# Altium schematic symbol library Signal Generator.SCHLIB: 43 symbols
Pins are listed as number, name and electrical type; pins without a type are passive.

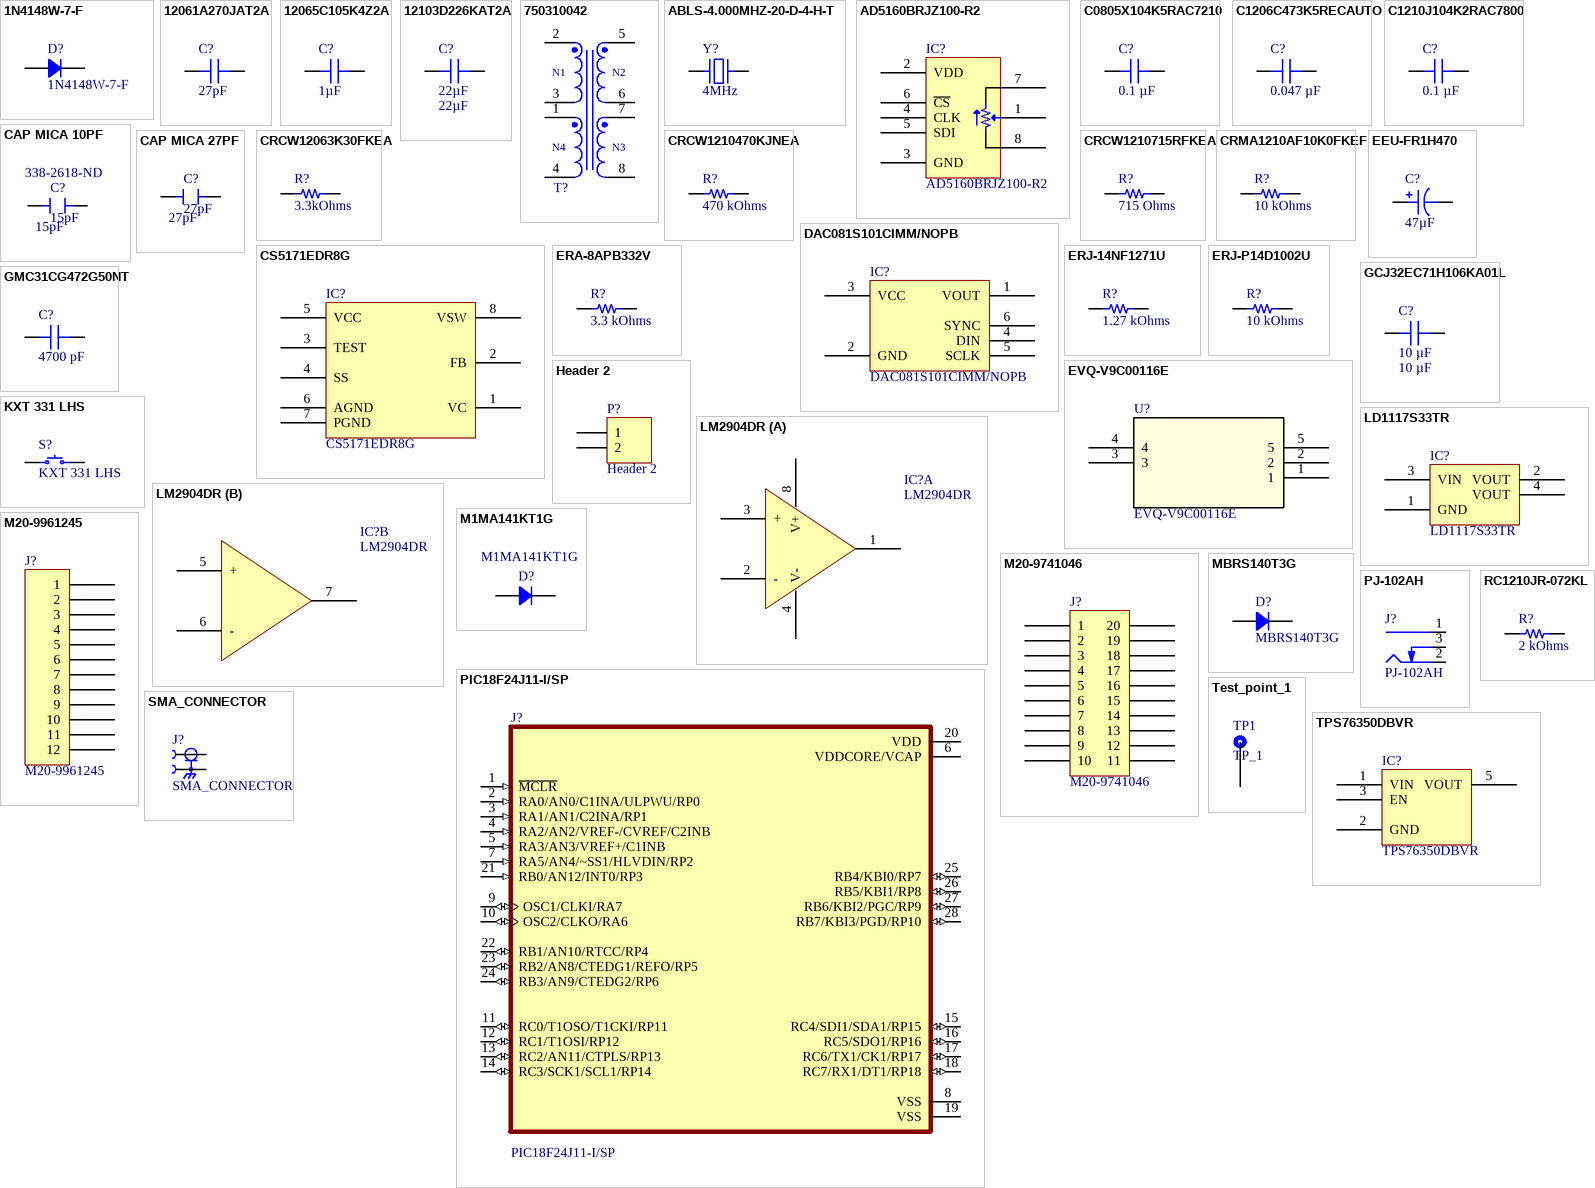
[diagram p0: symbols 1N4148W-7-F to TPS76350DBVR]

## 1N4148W-7-F
designator D?
DIODE GEN PURP 100V 300MA SOD123; Manufacturer: Diodes Incorporated; Capacitance @ Vr, F: 2pF @ 0V, 1MHz; Current - Reverse Leakage @ Vr: 1 µA @ 100 V; Diode Type: Standard; Reverse Recovery Time (trr): 4 ns; Speed: Fast Recovery =< 500ns, > 200mA (Io); Voltage - Forward (Vf) (Max) @ If: 1.25 V @ 150 mA; Part Number: 1N4148W-7-F; ComponentLink1Description: Datasheet; ComponentLink1URL: https://www.diodes.com/assets/Datasheets/ds30086.pdf; ComponentLink2Description: DigiKey Link; ComponentLink2URL: https://www.digikey.com/en/products/detail/diodes-incorporated/1N4148W-7-F/814371; Current - Average Rectified (Io): 300mA; LastUpdated: 8/02/2024 9:27:29 PM; Lifecycle Status: Active; Minimum Order: 1; Mounting Type: Surface Mount; Operating Temperature - Junction: -55°C ~ 150°C; Package / Case: SOD-123; Packaging: TapeAndReel; PartId: 1002; Part Status: Active; Price: 0.02; Series: -; Supplier 1: DigiKey; Supplier Part Number 1: 1N4148W-FDICT-ND; Supplier Device Package: SOD-123; Voltage - DC Reverse (Vr) (Max): 100 V
footprint SOD-123
pins: 1, 2

## 12061A270JAT2A
designator C?, comment 27pF
CAP CER 27PF 100V C0G/NP0 1206; Part Number: 12061A270JAT2A; manufacturer: AVX Corporation; Temperature Coefficient: C0G, NP0; Tolerance: ±5%; Value: 27pF; Applications: General Purpose; Capacitance: 27pF; componentlink1description: Datasheet; componentlink1url: http://datasheets.avx.com/C0GNP0-Dielectric.pdf; componentlink2description: DigiKey Link; componentlink2url: http://digikey.com/product-detail/en/avx-corporation/12061A270JAT2A/478-5038-1-ND/1888249; Device Package: 1206 (3216 Metric); lastupdated: 2/09/2020 1:05:05 AM; Lifecycle Status: Active; Minimum Order: 1; Mounting Type: Surface Mount, MLCC; Operating Temperature: -55°C ~ 125°C; Package / Case: 1206 (3216 Metric); packaging: TapeAndReel; partid: 19318; Part Status: Active; price: 0.06; series: -; Size / Dimension: 0.126" L x 0.063" W (3.20mm x 1.60mm); Supplier 1: DigiKey; Supplier Part Number 1: 478-5038-1-ND; Thickness (Max): 0.037" (0.94mm); Voltage - Rated: 100V
footprint CAP 1206_3216 - 1.0MM
pins: 1, 2

## 12065C105K4Z2A
designator C?, comment 1µF
CAP CER 1UF 50V X7R 1206; Part Number: 12065C105K4Z2A; manufacturer: AVX Corporation; Tolerance: ±10%; Value: 1µF; Applications: Automotive, Boardflex Sensitive; Capacitance: 1µF; componentlink1description: Datasheet; componentlink1url: http://datasheets.avx.com/AutoMLCC.pdf; componentlink2description: DigiKey Link; componentlink2url: http://digikey.com/product-detail/en/avx-corporation/12065C105K4Z2A/478-10886-1-ND/7536455; Device Package: 1206 (3216 Metric); Features: Soft Termination; lastupdated: 2/09/2020 1:05:06 AM; Lifecycle Status: Active; Minimum Order: 1; Mounting Type: Surface Mount, MLCC; Operating Temperature: -55°C ~ 125°C; Package / Case: 1206 (3216 Metric); packaging: TapeAndReel; partid: 18944; Part Status: Active; price: 0.12; Ratings: AEC-Q200; series: FLEXITERM®; Size / Dimension: 0.126" L x 0.063" W (3.20mm x 1.60mm); Supplier 1: DigiKey; Supplier Part Number 1: 478-10886-1-ND; Temperature Coefficient: X7R; Thickness (Max): 0.037" (0.94mm); Voltage - Rated: 50V
footprint CAP 1206_3216 - 1.0MM
pins: 1, 2

## 12103D226KAT2A
designator C?, comment 22µF
CAP CER 22UF 25V X5R 1210; Part Number: 12103D226KAT2A; Value: 22µF
footprint CAP 1210_3225 - 2.8MM
pins: 1, 2

## 750310042
designator T?, comment Ui = 30-57V, Uo1 = 12V/5A, Uo2 = -12V/1.6A  (value not drawn)
WE-PoE++ Power over Ethernet Plus Plus Transformer, THT, EFD20, Ui = 30-57V, Uo1 = 12V/5A, Uo2 = -12V/1.6A; Manufacturer Part Number: 750310042; Manufacturer: Wurth Elektronik; Auxiliary Voltage: 12V; Inductance: 154uH; Input Voltage: 30-57VDC; Insulation Test Voltage: 1500V; Leakage Inductance: 2uH; Output Current 1: 5A; Output Current 2: 1.6A; Output Voltage 2: -12V; Switching Frequency: 250-400kHz; Turns Ratio: 2:1:1:1; Category: Transformers For DC-DC Converter; Match Code: WE-PoE++; ComponentLink1Description: Website Link; ComponentLink1URL: https://www.we-online.com/redexpert/article/750310042?ad; ComponentLink2Description: Datasheet Link; ComponentLink2URL: https://www.we-online.com/redexpert/spec/750310042?ad; Mount: Through Hole; Operating Temperature Max: 125°C; Operating Temperature Min: -40°C; Packaging: Tape and Reel; Case/Size Code: EFD20; Length: 21.08mm; Width: 21.08mm; Height: 10.8mm; Output Voltage 1: 12V
footprint WE-PoE++_EFD20_THT_L21.08W21.08H10.8
pins: 1, 2, 3, 4, 5, 6, 7, 8
text: N1; N2; N4; N3

## ABLS-4.000MHZ-20-D-4-H-T
designator Y?, comment 4MHz
CRYSTAL 4.0000MHZ 20PF SMD; Part Number: ABLS-4.000MHZ-20-D-4-H-T; Manufacturer: Abracon LLC; ESR (Equivalent Series Resistance): 180 Ohms; Frequency Stability: ±35ppm; Frequency Tolerance: ±30ppm; Operating Mode: Fundamental; ComponentLink1Description: Datasheet; ComponentLink1URL: https://abracon.com/Resonators/abls.pdf; ComponentLink2Description: DigiKey Link; ComponentLink2URL: http://digikey.com/product-detail/en/abracon-llc/ABLS-4.000MHZ-20-D-4-H-T/535-14920-1-ND/9997997; Frequency: 4MHz; Height - Seated (Max): 0.165" (4.20mm); LastUpdated: 8/02/2024 9:34:21 PM; Lifecycle Status: Active; Load Capacitance: 20pF; Minimum Order: 1; Mounting Type: Surface Mount; Operating Temperature: -40°C ~ 85°C; Package / Case: HC-49/US; Packaging: TapeAndReel; PartId: 85; Part Status: Active; Price: 0.29; Series: ABLS; Size / Dimension: 0.449" L x 0.185" W (11.40mm x 4.70mm); Supplier 1: DigiKey; Supplier Part Number 1: 535-14920-1-ND; Type: MHz Crystal; Value: 4MHz
footprint ABRACON ABLS
pins: 1, 2

## AD5160BRJZ100-R2
designator IC?
IC DGTL POT 100KOHM 256TAP SOT23; Manufacturer: Analog Devices Inc.; Configuration: Potentiometer; Interface: SPI; Memory Type: Volatile; Number of Circuits: 1; Number of Taps: 256; Resistance (Ohms): 100k; Resistance - Wiper (Ohms) (Typ): 50; Temperature Coefficient (Typ): 45ppm/°C; Tolerance: ±15%; Voltage - Supply: 2.7V ~ 5.5V; Part Number: AD5160BRJZ100-R2; ComponentLink1Description: Datasheet; ComponentLink1URL: https://www.analog.com/media/en/technical-documentation/data-sheets/AD5160.pdf; ComponentLink2Description: DigiKey Link; ComponentLink2URL: http://digikey.com/product-detail/en/analog-devices-inc/AD5160BRJZ100-R2/AD5160BRJZ100-R2CT-ND/751230; LastUpdated: 3/06/2024 8:26:31 PM; Lifecycle Status: Active; Minimum Order: 1; Operating Temperature: -40°C ~ 125°C; Package / Case: SOT-23-8; Packaging: TapeAndReel; PartId: 39; Part Status: Active; Price: 1.68; Series: -; Supplier 1: DigiKey; Supplier Part Number 1: AD5160BRJZ100-R2CT-ND; Supplier Device Package: SOT-23-8; Taper: Linear
footprint ANALOG SOT-23-8 RJ-8
pins: 1 W, 2 VDD, 3 GND, 4 CLK, 5 SDI, 6 ~{CS}, 7 A, 8 B

## C0805X104K5RAC7210
designator C?, comment 0.1 µF
.100UF 50.0V; Part Number: C0805X104K5RAC7210; manufacturer: KEMET; Temperature Coefficient: X7R; Tolerance: ±10%; Voltage - Rated: 50V; Value: 0.1 µF; Applications: Boardflex Sensitive; Capacitance: 0.1 µF; componentlink1description: Datasheet; componentlink1url: https://connect.kemet.com:7667/gateway/IntelliData-ComponentDocumentation/1.0/download/datasheet/C0805X104K5RAC7210; componentlink2description: DigiKey Link; componentlink2url: https://www.digikey.com/en/products/detail/kemet/C0805X104K5RAC7210/12082600; Device Package: 0805 (2012 Metric); Features: Soft Termination; lastupdated: 9/02/2024 8:14:45 PM; Lifecycle Status: Active; Minimum Order: 1; Mounting Type: Surface Mount, MLCC; Operating Temperature: -55°C ~ 125°C; Package / Case: 0805 (2012 Metric); packaging: TapeAndReel; partid: 48810; Part Status: Active; price: 0.05; series: SMD Comm X7R Flex; Size / Dimension: 0.079" L x 0.049" W (2.00mm x 1.25mm); Supplier 1: DigiKey; Supplier Part Number 1: 399-C0805X104K5RAC7210CT-ND; Thickness (Max): 0.039" (0.98mm)
footprint CAP 0805_2012
pins: 1, 2

## C1206C473K5RECAUTO
designator C?, comment 0.047 µF
CAP CER 1206 47NF 50V X7R 10%; Part Number: C1206C473K5RECAUTO; manufacturer: KEMET; Applications: Automotive, ESD Protection; Capacitance: 0.047 µF; componentlink1description: Datasheet; componentlink1url: https://api.kemet.com/component-edge/download/datasheet/C1206C473K5RECAUTO.pdf; componentlink2description: DigiKey Link; componentlink2url: https://www.digikey.com/en/products/detail/kemet/C1206C473K5RECAUTO/8640487; Device Package: 1206 (3216 Metric); lastupdated: 9/02/2024 8:18:49 PM; Lifecycle Status: Active; Minimum Order: 1; Mounting Type: Surface Mount, MLCC; Operating Temperature: -55°C ~ 125°C; Package / Case: 1206 (3216 Metric); packaging: TapeAndReel; partid: 19026; Part Status: Active; price: 0.03; Ratings: AEC-Q200; series: ESD SMD Auto X7R; Size / Dimension: 0.126" L x 0.063" W (3.20mm x 1.60mm); Supplier 1: DigiKey; Supplier Part Number 1: 399-17893-1-ND; Temperature Coefficient: X7R; Thickness (Max): 0.043" (1.10mm); Tolerance: ±10%; Voltage - Rated: 50V; Value: 0.047 µF
footprint CAP 1206_3216 - 0.8MM
footprint Model Name (Model Description)
pins: 1, 2

## C1210J104K2RAC7800
designator C?, comment 0.1 µF
.100UF  200V; Part Number: C1210J104K2RAC7800; manufacturer: KEMET; Temperature Coefficient: X7R; Tolerance: ±10%; Applications: Boardflex Sensitive; Capacitance: 0.1 µF; componentlink1description: Datasheet; componentlink1url: https://connect.kemet.com:7667/gateway/IntelliData-ComponentDocumentation/1.0/download/datasheet/C1210J104K2RAC7800; componentlink2description: DigiKey Link; componentlink2url: https://www.digikey.com/en/products/detail/kemet/C1210J104K2RAC7800/12082491; Device Package: 1210 (3225 Metric); Features: Open Mode, Soft Termination; lastupdated: 4/06/2024 7:20:48 PM; Lifecycle Status: Active; Minimum Order: 1; Mounting Type: Surface Mount, MLCC; Operating Temperature: -55°C ~ 125°C; Package / Case: 1210 (3225 Metric); packaging: TapeAndReel; partid: 49670; Part Status: Active; price: 0.24; series: SMD Comm X7R FO; Size / Dimension: 0.130" L x 0.102" W (3.30mm x 2.60mm); Supplier 1: DigiKey; Supplier Part Number 1: 399-C1210J104K2RAC7800CT-ND; Thickness (Max): 0.057" (1.45mm); Voltage - Rated: 200V; Value: 0.1 µF
footprint CAP 1210_3225 - 1MM
pins: 1, 2

## CAP MICA 10PF
designator C?, comment 15pF  Supplier Part Number 1: 338-2618-ND
CAP MICA 15PF 5% 500V RADIAL; Supplier 1: Digikey; Value: 15pF
footprint CAP MICA 15PF
pins: 1, 2

## CAP MICA 27PF
designator C?, comment 27pF
CAP MICA 27PF 5% 500V RADIAL; Supplier 1: Digikey; Supplier Part Number 1: 338-2623-ND; Value: 27pF
footprint CAP MICA 27PF
pins: 1, 2

## CRCW12063K30FKEA
designator R?, comment 3.3kOhms
RES SMD 3.3K OHM 1% 1/4W 1206; Part Number: CRCW12063K30FKEA; Value: 3.3kOhms
footprint RES 1206_3216
pins: 1, 2

## CRCW1210470KJNEA
designator R?, comment 470 kOhms
RES SMD 470K OHM 5% 1/2W 1210; Part Number: CRCW1210470KJNEA; Manufacturer: Vishay Dale; Power (Watts): 0.5W, 1/2W; Temperature Coefficient: ±200ppm/°C; ComponentLink1Description: Datasheet; ComponentLink1URL: http://www.vishay.com/docs/20035/dcrcwe3.pdf; ComponentLink2Description: DigiKey Link; ComponentLink2URL: https://www.digikey.com/en/products/detail/vishay-dale/CRCW1210470KJNEA/1177238; Composition: Thick Film; Device Package: 1210 (3225 Metric); Features: Automotive AEC-Q200; Height - Seated (Max): 0.024" (0.60mm); LastUpdated: 3/06/2024 8:19:03 PM; Lifecycle Status: Active; Minimum Order: 1; Number of Terminations: 2; Operating Temperature: -55°C ~ 155°C; Package / Case: 1210 (3225 Metric); Packaging: TapeAndReel; Part Status: Active; Price: 0.02; Ratings: AEC-Q200; Resistance: 470 kOhms; Series: D/CRCW e3; Size / Dimension: 0.126" L x 0.098" W (3.20mm x 2.50mm); Supplier 1: DigiKey; Supplier Part Number 1: 541-470KVCT-ND; Supplier Device Package: 1210; Tolerance: ±5%; Value: 470 kOhms
footprint RES 1210_3225
pins: 1, 2

## CRCW1210715RFKEA
designator R?, comment 715 Ohms
RES SMD 715 OHM 1% 1/2W 1210; Part Number: CRCW1210715RFKEA; Manufacturer: Vishay Dale; Power (Watts): 0.5W, 1/2W; Temperature Coefficient: ±100ppm/°C; ComponentLink1Description: Datasheet; ComponentLink1URL: http://www.vishay.com/docs/20035/dcrcwe3.pdf; ComponentLink2Description: DigiKey Link; ComponentLink2URL: https://www.digikey.com/en/products/detail/vishay-dale/CRCW1210715RFKEA/1177340; Composition: Thick Film; Device Package: 1210 (3225 Metric); Features: Automotive AEC-Q200; Height - Seated (Max): 0.024" (0.60mm); LastUpdated: 8/02/2024 9:49:36 PM; Lifecycle Status: Active; Minimum Order: 1; Number of Terminations: 2; Operating Temperature: -55°C ~ 155°C; Package / Case: 1210 (3225 Metric); Packaging: TapeAndReel; Part Status: Active; Price: 0.02; Ratings: AEC-Q200; Resistance: 715 Ohms; Series: CRCW; Size / Dimension: 0.126" L x 0.098" W (3.20mm x 2.50mm); Supplier 1: DigiKey; Supplier Part Number 1: 541-715AACT-ND; Supplier Device Package: 1210; Tolerance: ±1%; Value: 715 Ohms
footprint RES 1210_3225
pins: 1, 2

## CRMA1210AF10K0FKEF
designator R?, comment 10 kOhms
CRMA1210 10K 1% EF E3; Part Number: CRMA1210AF10K0FKEF; Manufacturer: Vishay Dale; Power (Watts): 0.35W; Temperature Coefficient: ±100ppm/°C; ComponentLink1Description: Datasheet; ComponentLink1URL: https://www.vishay.com/docs/68043/crma.pdf; ComponentLink2Description: DigiKey Link; ComponentLink2URL: https://www.digikey.com/en/products/detail/vishay-dale/CRMA1210AF10K0FKEF/13998641; Composition: Thick Film; Device Package: 1210 (3225 Metric); Features: Automotive AEC-Q200, Moisture Resistant; Height - Seated (Max): 0.029" (0.74mm); LastUpdated: 3/06/2024 8:18:49 PM; Lifecycle Status: Active; Minimum Order: 1; Number of Terminations: 2; Operating Temperature: -55°C ~ 155°C; Package / Case: 1210 (3225 Metric); Packaging: TapeAndReel; Part Status: Active; Price: 0.17; Ratings: AEC-Q200; Resistance: 10 kOhms; Series: CRMA; Size / Dimension: 0.125" L x 0.100" W (3.18mm x 2.54mm); Supplier 1: DigiKey; Supplier Part Number 1: 541-CRMA1210AF10K0FKEFCT-ND; Supplier Device Package: 1210; Tolerance: ±1%; Value: 10 kOhms
footprint RES 1210_3225
pins: 1, 2

## CS5171EDR8G
designator IC?
IC REG MULT CONFG ADJ 1.5A 8SOIC; Manufacturer: ON Semiconductor; Current - Output: 1.5A (Switch); Frequency - Switching: 280kHz; Function: Step-Up, Step-Down, Step-Up/Step-Down; Number of Outputs: 1; Output Configuration: Positive or Negative; Output Type: Adjustable; Synchronous Rectifier: No; Topology: Buck, Boost, Flyback, Forward Converter, SEPIC; Voltage - Input (Max): 30V; Voltage - Input (Min): 2.7V; Voltage - Output (Max): 40V (Switch); Voltage - Output (Min/Fixed): 1.28V; Part Number: CS5171EDR8G; ComponentLink1Description: Datasheet; ComponentLink1URL: http://www.onsemi.com/pub/Collateral/CS5171-D.PDF; ComponentLink2Description: DigiKey Link; ComponentLink2URL: //digikey.com/product-detail/en/on-semiconductor/CS5171EDR8G/CS5171EDR8GOSTR-ND/918422; Device Package: 8-SOIC (0.154", 3.90mm Width); LastUpdated: 12/12/2019 8:27:18 AM; Lifecycle Status: 0; Minimum Order: 1; Mounting Type: Surface Mount; Operating Temperature: -40°C ~ 125°C (TJ); Package / Case: 8-SOIC (0.154", 3.90mm Width); Packaging: TapeAndReel; Part Status: Active; Price: 0.97; Series: -; Supplier 1: DigiKey; Supplier Part Number 1: CS5171EDR8GOSTR-ND; Supplier Device Package: 8-SOIC
footprint ON SEMI SO-8
pins: 1 VC, 2 FB, 3 TEST, 4 SS, 5 VCC, 6 AGND, 7 PGND, 8 VSW

## DAC081S101CIMM/NOPB
designator IC?
IC DAC 8BIT V-OUT 8VSSOP; Part Number: DAC081S101CIMM/NOPB
footprint TI VSSOP-8 DGK
pins: 1 VOUT, 2 GND, 3 VCC, 4 DIN, 5 SCLK, 6 SYNC

## EEU-FR1H470
designator C?, comment 47µF
AL LYTIC, RADIAL, 50VDC, 47UF; Part Number: EEU-FR1H470; manufacturer: Panasonic Electronic Components; Impedance: 140 mOhms; Lifetime @ Temp.: 5000 Hrs @ 105°C; Polarization: Polar; Ripple Current @ High Frequency: 405mA @ 100kHz; Ripple Current @ Low Frequency: 283.5mA @ 120Hz; Tolerance: ±20%; Voltage - Rated: 50V; Applications: General Purpose; Capacitance: 47µF; componentlink1description: Datasheet; componentlink1url: https://industrial.panasonic.com/cdbs/www-data/pdf/RDF0000/ABA0000C1022.pdf; componentlink2description: DigiKey Link; componentlink2url: http://digikey.com/product-detail/en/panasonic-electronic-components/EEU-FR1H470/P124235-ND/9921029; Device Package: Radial, Can; Height - Seated (Max): 0.500" (12.70mm); lastupdated: 4/09/2020 1:05:46 AM; Lead Spacing: 0.098" (2.50mm); Lifecycle Status: Active; Minimum Order: 1; Mounting Type: Through Hole; Operating Temperature: -40°C ~ 105°C; Package / Case: Radial, Can; packaging: Bulk; partid: 20220; Part Status: Active; price: 0.31; series: FR; Size / Dimension: 0.248" Dia (6.30mm); Supplier 1: DigiKey; Supplier Part Number 1: P124235-ND; value: 47µF
footprint CAP TH ALUM ELEC D6.30mm S2.50mm H12.70mm
pins: 1, 2

## ERA-8APB332V
designator R?, comment 3.3 kOhms
RES SMD 3.3K OHM 0.1% 1/4W 1206; Part Number: ERA-8APB332V; Manufacturer: Panasonic Electronic Components; Power (Watts): 0.25W, 1/4W; Temperature Coefficient: ±15ppm/°C; ComponentLink1Description: Datasheet; ComponentLink1URL: https://industrial.panasonic.com/cdbs/www-data/pdf/RDM0000/AOA0000C307.pdf; ComponentLink2Description: DigiKey Link; ComponentLink2URL: https://www.digikey.com/en/products/detail/panasonic-electronic-components/ERA-8APB332V/5141025; Composition: Thin Film; Device Package: 1206 (3216 Metric); Features: Automotive AEC-Q200; Height - Seated (Max): 0.028" (0.70mm); LastUpdated: 9/02/2024 8:54:35 PM; Lifecycle Status: Active; Minimum Order: 1; Number of Terminations: 2; Operating Temperature: -55°C ~ 155°C; Package / Case: 1206 (3216 Metric); Packaging: TapeAndReel; PartId: 28968; Part Status: Active; Price: 0.31; Ratings: AEC-Q200; Resistance: 3.3 kOhms; Series: ERA-8A; Size / Dimension: 0.126" L x 0.063" W (3.20mm x 1.60mm); Supplier 1: DigiKey; Supplier Part Number 1: P3.3KCRCT-ND; Supplier Device Package: 1206; Tolerance: ±0.1%; Value: 3.3 kOhms
footprint RES 1206_3216
pins: 1, 2

## ERJ-14NF1271U
designator R?, comment 1.27 kOhms
RES SMD 1.27K OHM 1% 1/2W 1210; Part Number: ERJ-14NF1271U; Manufacturer: Panasonic Electronic Components; Power (Watts): 0.5W, 1/2W; Temperature Coefficient: ±100ppm/°C; ComponentLink1Description: Datasheet; ComponentLink1URL: https://industrial.panasonic.com/cdbs/www-data/pdf/RDA0000/AOA0000C304.pdf; ComponentLink2Description: DigiKey Link; ComponentLink2URL: https://www.digikey.com/en/products/detail/panasonic-electronic-components/ERJ-14NF1271U/383860; Composition: Thick Film; Device Package: 1210 (3225 Metric); Features: Automotive AEC-Q200; Height - Seated (Max): 0.028" (0.70mm); LastUpdated: 8/02/2024 9:49:38 PM; Lifecycle Status: Active; Minimum Order: 1; Number of Terminations: 2; Operating Temperature: -55°C ~ 155°C; Package / Case: 1210 (3225 Metric); Packaging: TapeAndReel; Part Status: Active; Price: 0.03; Ratings: AEC-Q200; Resistance: 1.27 kOhms; Series: ERJ-14N; Size / Dimension: 0.126" L x 0.098" W (3.20mm x 2.50mm); Supplier 1: DigiKey; Supplier Part Number 1: P1.27KAACT-ND; Supplier Device Package: 1210; Tolerance: ±1%; Value: 1.27 kOhms
footprint RES 1210_3225
pins: 1, 2

## ERJ-P14D1002U
designator R?, comment 10 kOhms
RES SMD 10K OHM 0.5% 1/2W 1210; Part Number: ERJ-P14D1002U; Manufacturer: Panasonic Electronic Components; Power (Watts): 0.5W, 1/2W; Temperature Coefficient: ±100ppm/°C; ComponentLink1Description: Datasheet; ComponentLink1URL: https://industrial.panasonic.com/cdbs/www-data/pdf/RDO0000/AOA0000C331.pdf; ComponentLink2Description: DigiKey Link; ComponentLink2URL: https://www.digikey.com/en/products/detail/panasonic-electronic-components/ERJ-P14D1002U/3982725; Composition: Thick Film; Device Package: 1210 (3225 Metric); Features: Automotive AEC-Q200, Pulse Withstanding; Height - Seated (Max): 0.028" (0.70mm); LastUpdated: 8/02/2024 9:49:31 PM; Lifecycle Status: Active; Minimum Order: 1; Number of Terminations: 2; Operating Temperature: -55°C ~ 155°C; Package / Case: 1210 (3225 Metric); Packaging: TapeAndReel; Part Status: Active; Price: 0.07; Ratings: AEC-Q200; Resistance: 10 kOhms; Series: ERJ-P14; Size / Dimension: 0.126" L x 0.098" W (3.20mm x 2.50mm); Supplier 1: DigiKey; Supplier Part Number 1: P16083CT-ND; Supplier Device Package: 1210; Tolerance: ±0.5%; Value: 10 kOhms
footprint RES 1210_3225
pins: 1, 2

## EVQ-V9C00116E
designator U?
No Description Available; Mfr_Name: Panasonic; RefDes: RefDes; Type: Type
footprint SW_EVQ-V9C00116E_PAN
pins: 1, 2, 3, 4, 5

## GCJ32EC71H106KA01L
designator C?, comment 10 µF
CAP CER 10UF 50V X7S 1210; Part Number: GCJ32EC71H106KA01L; Value: 10 µF
footprint CAP 1210_3225 - 1MM
pins: 1, 2

## GMC31CG472G50NT
designator C?, comment 4700 pF
CAP1206 COG 4700PF 2% 50V; Part Number: GMC31CG472G50NT; manufacturer: Cal-Chip Electronics, Inc.; Temperature Coefficient: C0G, NP0; Value: 4700 pF; Applications: General Purpose; Capacitance: 4700 pF; componentlink1description: Datasheet; componentlink1url: https://88ce57.p3cdn1.secureserver.net/wp-content/uploads/2023/01/gmc_series-2.pdf; componentlink2description: DigiKey Link; componentlink2url: https://www.digikey.com/en/products/detail/cal-chip-electronics-inc/GMC31CG472G50NT/19910712; Device Package: 1206 (3216 Metric); lastupdated: 9/02/2024 8:17:50 PM; Lifecycle Status: Active; Minimum Order: 1; Mounting Type: Surface Mount, MLCC; Operating Temperature: -55°C ~ 125°C; Package / Case: 1206 (3216 Metric); packaging: TapeAndReel; partid: 56643; price: 0.05; series: GMC; Size / Dimension: 0.126" L x 0.063" W (3.20mm x 1.60mm); Supplier 1: DigiKey; Supplier Part Number 1: 4713-GMC31CG472G50NTCT-ND; Thickness (Max): 0.037" (0.95mm); Tolerance: ±2%; Voltage - Rated: 50V
footprint CAP 1206_3216 - 0.8MM
pins: 1, 2

## Header 2
designator P?
Header, 2-Pin; LatestRevisionDate: 17-Jul-2002; LatestRevisionNote: Re-released for DXP Platform.; Publisher: Altium Limited
footprint HDR1X2 (Connector; Header; 2 Position)
signal-integrity model Connector
pins: 1, 2

## KXT 331 LHS
designator S?
SWITCH TACTILE SPST-NO 0.02A 15V; Manufacturer: C&K; Actuator Height off PCB, Vertical: 0.60mm; Actuator Orientation: Top Actuated; Actuator Type: Standard; Contact Rating @ Voltage: 0.02A @ 15VDC; Illumination: Non-Illuminated; Operating Force: 240gf; Outline: 3.00mm x 2.00mm; Switch Function: Off-Mom; Part Number: KXT 331 LHS; Circuit: SPST-NO; ComponentLink1Description: Datasheet; ComponentLink1URL: https://dznh3ojzb2azq.cloudfront.net/products/Tactile/KXT3/documents/datasheet.pdf; ComponentLink2Description: DigiKey Link; ComponentLink2URL: https://www.digikey.com/en/products/detail/c-k/KXT-331-LHS/6599754; LastUpdated: 3/06/2024 8:19:27 PM; Lifecycle Status: Active; Minimum Order: 1; Mounting Type: Surface Mount; Operating Temperature: -40°C ~ 85°C; Packaging: TapeAndReel; Part Status: Active; Price: 0.13; Series: KXT3; Supplier 1: DigiKey; Supplier Part Number 1: CKN10779CT-ND; Termination Style: SMD (SMT) Tab
footprint C&K KXT3
pins: 1, 2

## LD1117S33TR
designator IC?
IC REG LINEAR 3.3V 800MA SOT223; Manufacturer: STMicroelectronics; Current - Quiescent (Iq): 10 mA; Number of Regulators: 1; Output Configuration: Positive; Output Type: Fixed; Protection Features: Over Current, Over Temperature; PSRR: 75dB (120Hz); Voltage Dropout (Max): 1.2V @ 800mA; Voltage - Input (Max): 15V; Part Number: LD1117S33TR; ComponentLink1Description: Datasheet; ComponentLink1URL: http://www.st.com/content/ccc/resource/technical/document/datasheet/99/3b/7d/91/91/51/4b/be/CD00000544.pdf/files/CD00000544.pdf/jcr:content/translations/en.CD00000544.pdf; ComponentLink2Description: DigiKey Link; ComponentLink2URL: https://www.digikey.com/en/products/detail/stmicroelectronics/LD1117S33TR/585766; Current - Output: 800mA; LastUpdated: 3/06/2024 8:14:20 PM; Lifecycle Status: Active; Minimum Order: 1; Mounting Type: Surface Mount; Operating Temperature: 0°C ~ 125°C; Package / Case: TO-261-4, TO-261AA; Packaging: TapeAndReel; Part Status: Active; Price: 0.13; Series: -; Supplier 1: DigiKey; Supplier Part Number 1: 497-1242-1-ND; Supplier Device Package: SOT-223; Voltage - Output (Min/Fixed): 3.3V
footprint ST SOT-223
pins: 1 GND, 2 VOUT, 3 VIN, 4 VOUT

## LM2904DR
designator IC?
IC OPAMP GP 2 CIRCUIT 8SOIC; Manufacturer: Texas Instruments; Amplifier Type: General Purpose; Current - Input Bias: 20nA; Current - Output / Channel: 30mA; Current - Supply: 1mA; Gain Bandwidth Product: 700kHz; Number of Circuits: 2; Slew Rate: 0.3V/µs; Voltage - Input Offset: 3mV; Voltage - Supply, Single/Dual (±): 3V ~ 26V, ±1.5V ~ 13V; Part Number: LM2904DR; ComponentLink1Description: Datasheet; ComponentLink1URL: http://www.ti.com/general/docs/suppproductinfo.tsp?distId=10&gotoUrl=http%3A%2F%2Fwww.ti.com%2Flit%2Fgpn%2Flm258a; ComponentLink2Description: DigiKey Link; ComponentLink2URL: http://digikey.com/product-detail/en/texas-instruments/LM2904DR/296-14596-1-ND/555533; Device Package: 8-SOIC (0.154", 3.90mm Width); LastUpdated: 9/01/2020 2:06:28 AM; Lifecycle Status: Active; Minimum Order: 1; Mounting Type: Surface Mount; Operating Temperature: -40°C ~ 125°C; Package / Case: 8-SOIC (0.154", 3.90mm Width); Packaging: ReReel; PartId: 4; Part Status: Active; Price: 0.00; Series: -; Supplier 1: DigiKey; Supplier Part Number 1: 296-14596-1-ND; Supplier Device Package: 8-SOIC
footprint TI SOIC-8 D
part A pins: 1 OUTA, 2 -, 3 +, 4 V-, 8 V+
part B pins: 5 +, 6 -, 7 OUTB

## M1MA141KT1G
designator D?
DIODE GEN PURP 40V 100MA SC70-3; Manufacturer: ON Semiconductor; Current - Average Rectified (Io): 100mA (DC); Current - Reverse Leakage @ Vr: 100nA @ 35V; Diode Type: Standard; Reverse Recovery Time (trr): 3ns; Speed: Small Signal =< 200mA (Io), Any Speed; Voltage - Forward (Vf) (Max) @ If: 1.2V @ 100mA; Part Number: M1MA141KT1G; ComponentLink1Description: Datasheet; ComponentLink1URL: http://www.onsemi.com/pub/Collateral/M1MA141KT1-D.PDF; ComponentLink2Description: DigiKey Link; ComponentLink2URL: http://digikey.com/product-detail/en/on-semiconductor/M1MA141KT1G/M1MA141KT1GOSCT-ND/917953; LastUpdated: 8/02/2024 9:34:01 PM; Lifecycle Status: Active; Minimum Order: 1; Mounting Type: Surface Mount; Operating Temperature - Junction: 150°C (Max); Package / Case: SC-70, SOT-323; Packaging: TapeAndReel; PartId: 8; Part Status: Active; Price: 0.03; Series: -; Supplier 1: DigiKey; Supplier Part Number 1: M1MA141KT1GOSCT-ND; Supplier Device Package: SC-70-3 (SOT323); Voltage - DC Reverse (Vr) (Max): 40V
footprint DIODES SOT-323-3
pins: 1, 2

## M20-9741046
designator J?
CONN HEADER R/A 20POS 2.54MM; Manufacturer: Harwin Inc.; Connector Type: Header, Cuttable; Current Rating (Amps): 3A per Contact; Material Flammability Rating: UL94 V-0; Number of Positions: 20; Number of Positions Loaded: All; Shrouding: Unshrouded; Style: Board to Board or Cable; Part Number: M20-9741046; ComponentLink1Description: Datasheet; ComponentLink1URL: https://cdn.harwin.com/pdfs/M20-974.pdf; ComponentLink2Description: DigiKey Link; ComponentLink2URL: http://digikey.com/product-detail/en/harwin-inc/M20-9741046/M20-9741046-ND/3920727; Contact Finish - Mating: Tin; Contact Finish - Post: Tin; Contact Material: Brass; Contact Shape: Square; Contact Type: Male Pin; Fastening Type: Push-Pull; Insulation Color: Black; Insulation Material: Polyamide (PA6T), Nylon 6T; LastUpdated: 21/09/2022 7:20:06 PM; Lifecycle Status: Active; Minimum Order: 1200; Mounting Type: Through Hole, Right Angle; Number of Rows: 2; Operating Temperature: -40°C ~ 105°C; Packaging: Bulk; PartId: 162; Part Status: Active; Price: 0.31; Series: M20; Supplier 1: DigiKey; Supplier Part Number 1: M20-9741046-ND; Termination: Solder
footprint HARWIN M20-9741045
pins: 1, 2, 3, 4, 5, 6, 7, 8, 9, 10, 11, 12, 13, 14, 15, 16, 17, 18, 19, 20

## M20-9961245
designator J?
CONN HEADER R/A 12POS 2.54MM; Manufacturer: Harwin Inc.; Connector Type: Header, Cuttable; Contact Length - Mating: 0.240" (6.10mm); Contact Length - Post: 0.118" (3.00mm); Current Rating (Amps): 3A per Contact; Material Flammability Rating: UL94 V-0; Number of Positions: 12; Number of Positions Loaded: All; Pitch - Mating: 0.100" (2.54mm); Row Spacing - Mating: -40°C ~ 105°C; Shrouding: Unshrouded; Style: Board to Board or Cable; Part Number: M20-9961245; ComponentLink1Description: Datasheet; ComponentLink1URL: https://cdn.harwin.com/pdfs/Harwin_PC_Connectors_M20.pdf; ComponentLink2Description: DigiKey Link; ComponentLink2URL: https://www.digikey.com/en/products/detail/harwin-inc/M20-9961245/3921062; Contact Finish - Mating: Gold; Contact Material: Brass; Contact Shape: Square; Contact Type: Male Pin; Fastening Type: Push-Pull; Insulation Color: Black; Insulation Height: 0.100" (2.54mm); Insulation Material: Polyamide (PA6T), Nylon 6T; LastUpdated: 21/09/2022 7:24:59 PM; Lifecycle Status: Active; Minimum Order: 1; Mounting Type: Through Hole, Right Angle; Number of Rows: 1; Operating Temperature: -40°C ~ 105°C; Packaging: Bulk; PartId: 173; Part Status: Active; Price: 0.31; Series: M20; Supplier 1: DigiKey; Supplier Part Number 1: 952-3288-ND; Termination: Solder
footprint HARWIN M20-9961245
pins: 1, 2, 3, 4, 5, 6, 7, 8, 9, 10, 11, 12

## MBRS140T3G
designator D?
DIODE SCHOTTKY 40V 1A SMB; Manufacturer: ON Semiconductor; Current - Reverse Leakage @ Vr: 1mA @ 40V; Speed: Fast Recovery =< 500ns, > 200mA (Io); Voltage - Forward (Vf) (Max) @ If: 600mV @ 1A; Part Number: MBRS140T3G; ComponentLink1Description: Datasheet; ComponentLink1URL: https://www.onsemi.com/pub/Collateral/MBRS140T3-D.PDF; ComponentLink2Description: DigiKey Link; ComponentLink2URL: http://digikey.com/product-detail/en/on-semiconductor/MBRS140T3G/MBRS140T3GOSCT-ND/918002; Current - Average Rectified (Io): 1A; Diode Type: Schottky; LastUpdated: 8/02/2024 9:26:46 PM; Lifecycle Status: Active; Minimum Order: 1; Mounting Type: Surface Mount; Operating Temperature - Junction: -65°C ~ 125°C; Package / Case: DO-214AA, SMB; Packaging: TapeAndReel; PartId: 1387; Part Status: Active; Price: 0.08; Series: -; Supplier 1: DigiKey; Supplier Part Number 1: MBRS140T3GOSCT-ND; Supplier Device Package: SMB; Voltage - DC Reverse (Vr) (Max): 40V
footprint DO214AA SMB
pins: 1, 2

## PIC18F24J11-I/SP
designator J?
28-Pin, 16KB Flash, 4KB RAM, 12 MIPS, nanoWatt | Microchip Technology Inc. PIC18F24J11-I/SP; SnapEDA_Link: https://www.snapeda.com/parts/PIC18F24J11-I/SP/Microchip/view-part/?ref=snap; Package: SPDIP-28 Microchip; Value: *; MF: Microchip; MP: PIC18F24J11-I/SP; Check_prices: https://www.snapeda.com/parts/PIC18F24J11-I/SP/Microchip/view-part/?ref=eda
footprint DIP787W45P254L3556H508Q28
pins: 1 ~{MCLR} (in), 2 RA0/AN0/C1INA/ULPWU/RP0 (in), 3 RA1/AN1/C2INA/RP1 (in), 4 RA2/AN2/VREF-/CVREF/C2INB (in), 5 RA3/AN3/VREF+/C1INB (in), 6 VDDCORE/VCAP (power), 7 RA5/AN4/~SS1/HLVDIN/RP2 (in), 8 VSS (power), 9 OSC1/CLKI/RA7 (io), 10 OSC2/CLKO/RA6 (io), 11 RC0/T1OSO/T1CKI/RP11 (io), 12 RC1/T1OSI/RP12 (io), 13 RC2/AN11/CTPLS/RP13 (io), 14 RC3/SCK1/SCL1/RP14 (io), 15 RC4/SDI1/SDA1/RP15 (io), 16 RC5/SDO1/RP16 (io), 17 RC6/TX1/CK1/RP17 (io), 18 RC7/RX1/DT1/RP18 (io), 19 VSS (power), 20 VDD (power), 21 RB0/AN12/INT0/RP3 (in), 22 RB1/AN10/RTCC/RP4 (io), 23 RB2/AN8/CTEDG1/REFO/RP5 (io), 24 RB3/AN9/CTEDG2/RP6 (io), 25 RB4/KBI0/RP7 (io), 26 RB5/KBI1/RP8 (io), 27 RB6/KBI2/PGC/RP9 (io), 28 RB7/KBI3/PGD/RP10 (io)

## PJ-102AH
designator J?
CONN PWR JACK 2X5.5MM SOLDER; Manufacturer: CUI Devices; Actual Diameter: 0.079" (2.00mm ID), 0.256" (6.50mm OD); Current Rating (Amps): 5A; Gender: Male; Industry Recognized Mating Diameter: 2.00mm ID (0.079"), 5.50mm OD (0.217"); Internal Switch(s): Single Switch, Normally Closed; Material Flammability Rating: UL94 V-0; Mating Length/Depth: 0.354" (9.00mm); Number of Positions/Contacts: 2 Conductors, 3 Contacts; Shielding: Unshielded; Voltage - Rated: 24VDC; Part Number: PJ-102AH; ComponentLink1Description: Datasheet; ComponentLink1URL: https://www.cuidevices.com/product/resource/digikeypdf/pj-102ah.pdf; ComponentLink2Description: DigiKey Link; ComponentLink2URL: //digikey.com/product-detail/en/cui-devices/PJ-102AH/CP-102AH-ND/408448; Connector Type: Jack; LastUpdated: 16/12/2019 7:01:27 PM; Lifecycle Status: 0; Minimum Order: 1; Mounting Type: Through Hole, Right Angle; Packaging: Tray; Part Status: Active; Price: 0.76; Series: -; Supplier 1: DigiKey; Supplier Part Number 1: CP-102AH-ND; Termination: Solder
footprint CUI PJ-102AH
pins: 1 Centre, 2 Outer, 3 SW

## RC1210JR-072KL
designator R?, comment 2 kOhms
RES 2K OHM 5% 1/2W 1210; Part Number: RC1210JR-072KL; Manufacturer: Yageo; Power (Watts): 0.5W, 1/2W; Temperature Coefficient: ±100ppm/°C; ComponentLink1Description: Datasheet; ComponentLink1URL: https://www.yageo.com/upload/media/product/productsearch/datasheet/rchip/PYu-RC_Group_51_RoHS_L_11.pdf; ComponentLink2Description: DigiKey Link; ComponentLink2URL: https://www.digikey.com/en/products/detail/yageo/RC1210JR-072KL/5919910; Composition: Thick Film; Device Package: 1210 (3225 Metric); Features: Moisture Resistant; Height - Seated (Max): 0.024" (0.60mm); LastUpdated: 8/02/2024 9:49:20 PM; Lifecycle Status: Active; Minimum Order: 1; Number of Terminations: 2; Operating Temperature: -55°C ~ 155°C; Package / Case: 1210 (3225 Metric); Packaging: TapeAndReel; Part Status: Active; Price: 0.01; Resistance: 2 kOhms; Series: RC_L; Size / Dimension: 0.122" L x 0.102" W (3.10mm x 2.60mm); Supplier 1: DigiKey; Supplier Part Number 1: 13-RC1210JR-072KLCT-ND; Supplier Device Package: 1210; Tolerance: ±5%; Value: 2 kOhms
footprint RES 1210_3225
pins: 1, 2

## SMA_CONNECTOR
designator J?
Straight SMA Connector; MP: altium_native_batch; Value: *; Package: None; Availability: Unavailable; Price: None
footprint LPRS_SMA_CONNECTOR
pins: 1, G1 2, G2 2, G3 2, G4 2

## Test_point_1
designator TP1, comment TP_1  (no BOM)
footprint Test_point_1 (TP_1)
pins: 1 P1

## TPS76350DBVR
designator IC?
IC REG LINEAR 5V 150MA SOT23-5; Manufacturer: Texas Instruments; Control Features: Enable; Current - Quiescent (Iq): 100 µA; Current - Supply (Max): 140 µA; Number of Regulators: 1; Output Configuration: Positive; Output Type: Fixed; Protection Features: Over Current, Over Temperature, Reverse Polarity; PSRR: 60dB (1kHz); Voltage Dropout (Max): 0.3V @ 150mA; Voltage - Input (Max): 10V; Part Number: TPS76350DBVR; ComponentLink1Description: Datasheet; ComponentLink1URL: http://www.ti.com/general/docs/suppproductinfo.tsp?distId=10&gotoUrl=http%3A%2F%2Fwww.ti.com%2Flit%2Fgpn%2Ftps763; ComponentLink2Description: DigiKey Link; ComponentLink2URL: https://www.digikey.com/en/products/detail/texas-instruments/TPS76350DBVR/382163; Current - Output: 150mA; LastUpdated: 3/06/2024 8:14:19 PM; Lifecycle Status: Active; Minimum Order: 1; Mounting Type: Surface Mount; Operating Temperature: -40°C ~ 125°C; Package / Case: SC-74A, SOT-753; Packaging: TapeAndReel; Part Status: Active; Price: 0.22; Series: -; Supplier 1: DigiKey; Supplier Part Number 1: 296-11023-1-ND; Supplier Device Package: SOT-23-5; Voltage - Output (Min/Fixed): 5V
footprint TI SOT-23-5 DBV
pins: 1 VIN "Desc1", 2 GND "Desc1", 3 EN "Desc1", 5 VOUT "Desc1"

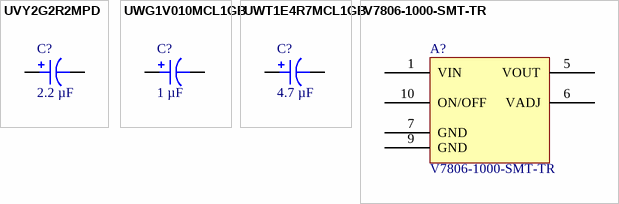
[diagram p1: symbols UVY2G2R2MPD to V7806-1000-SMT-TR]

## UVY2G2R2MPD
designator C?, comment 2.2 µF
CAP ALUM 2.2UF 20% 400V RADIAL; Part Number: UVY2G2R2MPD; manufacturer: Nichicon; Lifetime @ Temp.: 1000 Hrs @ 105°C; Polarization: Polar; Ripple Current @ High Frequency: 31.05 mA @ 10 kHz; Ripple Current @ Low Frequency: 27 mA @ 120 Hz; Applications: General Purpose; Capacitance: 2.2 µF; componentlink1description: Datasheet; componentlink1url: http://nichicon-us.com/english/products/pdfs/e-uvy.pdf; componentlink2description: DigiKey Link; componentlink2url: https://www.digikey.com/en/products/detail/nichicon/UVY2G2R2MPD/2539761; Device Package: Radial, Can; Height - Seated (Max): 0.492" (12.50mm); lastupdated: 8/02/2024 9:38:05 PM; Lead Spacing: 0.138" (3.50mm); Lifecycle Status: Active; Minimum Order: 1; Mounting Type: Through Hole; Operating Temperature: -40°C ~ 105°C; Package / Case: Radial, Can; packaging: Bulk; partid: 7299; Part Status: Active; price: 0.15; series: UVY; Size / Dimension: 0.315" Dia (8.00mm); Supplier 1: DigiKey; Supplier Part Number 1: 493-16197-ND; Tolerance: ±20%; value: 2.2 µF; Voltage - Rated: 400 V
footprint CAP AL TH D8 L3.5 H12.5
pins: 1, 2

## UWG1V010MCL1GB
designator C?, comment 1 µF
CAP ALUM 1UF 20% 35V SMD; Part Number: UWG1V010MCL1GB; manufacturer: Nichicon; Impedance: 3 Ohms; Lifetime @ Temp.: 1000 Hrs @ 105°C; Ripple Current @ High Frequency: 60 mA @ 100 kHz; Ripple Current @ Low Frequency: 30 mA @ 120 Hz; Surface Mount Land Size: 0.169" L x 0.169" W (4.30mm x 4.30mm); Applications: General Purpose; Capacitance: 1 µF; componentlink1description: Datasheet; componentlink1url: http://nichicon-us.com/english/products/pdfs/e-uwg.pdf; componentlink2description: DigiKey Link; componentlink2url: https://www.digikey.com/en/products/detail/nichicon/UWG1V010MCL1GB/2550719; Device Package: Radial, Can - SMD; Height - Seated (Max): 0.213" (5.40mm); lastupdated: 3/06/2024 7:52:59 PM; Lifecycle Status: Active; Minimum Order: 1; Mounting Type: Surface Mount; Operating Temperature: -55°C ~ 105°C; Package / Case: Radial, Can - SMD; packaging: TapeAndReel; partid: 7073; Part Status: Active; price: 0.08; Ratings: AEC-Q200; series: UWG; Size / Dimension: 0.157" Dia (4.00mm); Supplier 1: DigiKey; Supplier Part Number 1: 493-9755-1-ND; Tolerance: ±20%; value: 1 µF; Voltage - Rated: 35 V
footprint CAP ALSMD 4.3MM H5.4MM
pins: 1, 2

## UWT1E4R7MCL1GB
designator C?, comment 4.7 µF
CAP ALUM 4.7UF 20% 25V SMD; Part Number: UWT1E4R7MCL1GB; manufacturer: Nichicon; Lifetime @ Temp.: 1000 Hrs @ 105°C; Polarization: Polar; Ripple Current @ High Frequency: 19.5 mA @ 10 kHz; Ripple Current @ Low Frequency: 13 mA @ 120 Hz; Surface Mount Land Size: 0.169" L x 0.169" W (4.30mm x 4.30mm); Applications: General Purpose; Capacitance: 4.7 µF; componentlink1description: Datasheet; componentlink1url: https://products.nichicon.co.jp/en/pdf/XJA043/e-uwt.pdf; componentlink2description: DigiKey Link; componentlink2url: https://www.digikey.com/en/products/detail/nichicon/UWT1E4R7MCL1GB/589925; Device Package: Radial, Can - SMD; Height - Seated (Max): 0.213" (5.40mm); lastupdated: 3/06/2024 7:52:57 PM; Lifecycle Status: Active; Minimum Order: 1; Mounting Type: Surface Mount; Operating Temperature: -55°C ~ 105°C; Package / Case: Radial, Can - SMD; packaging: TapeAndReel; partid: 7090; Part Status: Active; price: 0.05; series: UWT; Size / Dimension: 0.157" Dia (4.00mm); Supplier 1: DigiKey; Supplier Part Number 1: 493-2184-1-ND; Tolerance: ±20%; value: 4.7 µF; Voltage - Rated: 25 V
footprint CAP ALSMD 4.3MM H5.4MM
pins: 1, 2

## V7806-1000-SMT-TR
designator A?
DC DC CONVERTER 6.5V 7W; Part Number: V7806-1000-SMT-TR
footprint CUI V78
pins: 1 VIN, 5 VOUT, 6 VADJ, 7 GND, 9 GND, 10 ON/OFF